# Altium schematic symbol library OPA344.SchLib: 1 symbol
Pins are listed as number, name and electrical type; pins without a type are passive.

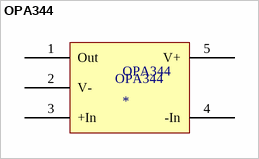
[diagram p0: symbol OPA344]

## OPA344
designator OPA344
footprint SOT23_5 (OPA344 op-amp footprint)
pins: 1 Out, 2 V-, 3 +In, 4 -In, 5 V+